# EAGLE library part QDSP-6064 (library pimoroni)
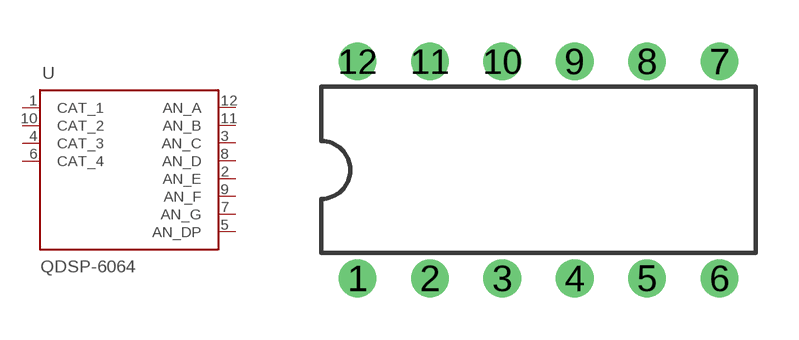
[diagram p51: symbol with the pads of DIL12; footprint DIL12]

Designator prefix -

## QDSP-6064  [DIL12]
1  CAT_1  in
2  AN_E  in
3  AN_C  in
4  CAT_3  in
5  AN_DP  in
6  CAT_4  in
7  AN_G  in
8  AN_D  in
9  AN_F  in
10  CAT_2  in
11  AN_B  in
12  AN_A  in

## Footprint DIL12 (pad centres in mm)
Dual In Line Package
drill 0.813: 1 -7.62,-3.81; 2 -5.08,-3.81; 3 -2.54,-3.81; 4 0,-3.81; 5 2.54,-3.81; 6 5.08,-3.81; 7 5.08,3.81; 8 2.54,3.81; 9 0,3.81; 10 -2.54,3.81; 11 -5.08,3.81; 12 -7.62,3.81